# Altium footprint library SB315.PcbLib: 1 footprints
Each footprint in its own frame and in the unit in brackets; x right, y up, seen from the top. Pads: shape width x height; smd on the part's side, far side on the other; paste and mask are expansions set on the pad; w line width, h text height; cw(c..) or ccw(c..) is an arc to the next point about the centre after c.
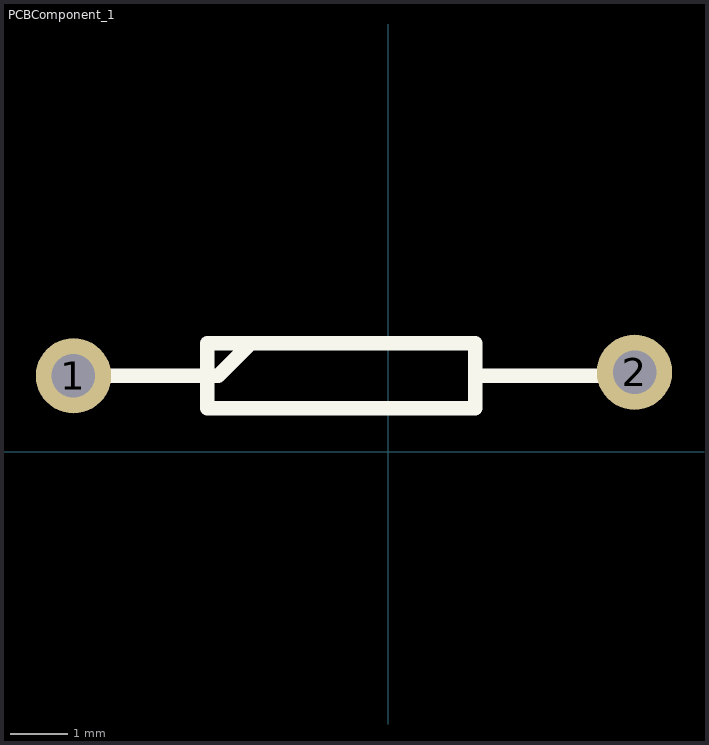
[diagram p0: the footprint, top view; thin cyan lines are the x and y axes]

## PCBComponent_1 [mil]
pads (2):
  round 52 hole 30: 1(-217.5,52.5) 2(170,55)
Top Overlay:
  lines w10: -217.5,52.5 -125,52.5 -117.5,52.5 -95,75 ; 60,52.5 162.5,52.5 ; -125,30 60,30 60,75 -125,75 -125,30